# Altium footprint library PcbLib1.PcbLib: 1 footprints
Each footprint in its own frame and in the unit in brackets; x right, y up, seen from the top. Pads: shape width x height; smd on the part's side, far side on the other; paste and mask are expansions set on the pad; w line width, h text height; cw(c..) or ccw(c..) is an arc to the next point about the centre after c.
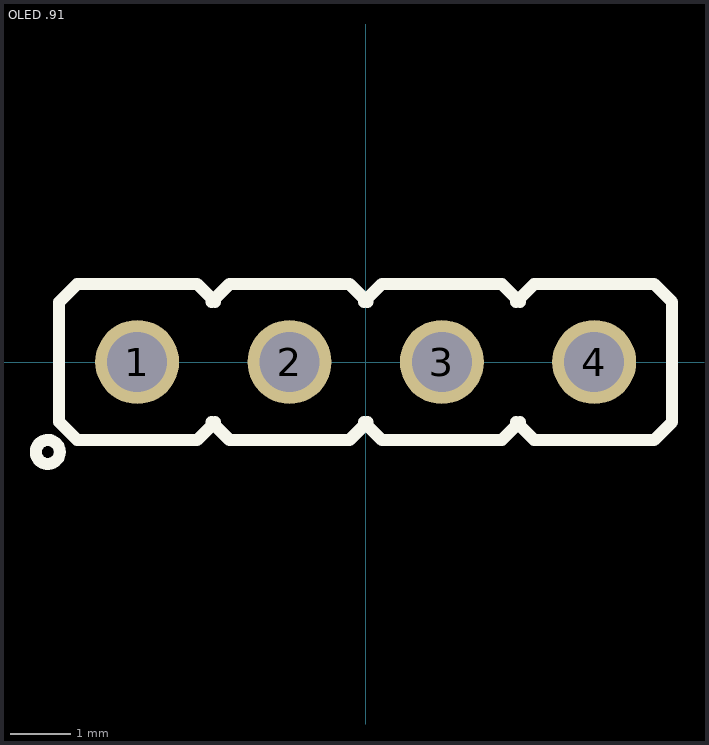
[diagram p0: the footprint, top view; thin cyan lines are the x and y axes]

## OLED .91 [mm] "Connector; Header; 4 Position"
pads (4):
  round 1.4 / inner round 1.4 / far side oval 1.4x2.2 hole 1 mask+0.1: 1(-3.81,0) 2(-1.27,0) 3(1.27,0) 4(3.81,0)
Top Overlay:
  circle w0.2: c-5.3,-1.5 r0.2
  lines w0.2: -2.57,-1 -2.27,-1.3 -0.27,-1.3 0.03,-1 ; -2.57,1 -2.27,1.3 -0.27,1.3 0.03,1 ; -2.51,-1 -2.81,-1.3 -4.81,-1.3 -5.11,-1 -5.11,1 -4.81,1.3 -2.81,1.3 -2.51,1 ; -0.03,-1 0.27,-1.3 2.27,-1.3 2.57,-1 ; -0.03,1 0.27,1.3 2.27,1.3 2.57,1 ; 2.51,-1 2.81,-1.3 4.81,-1.3 5.11,-1 5.11,1 4.81,1.3 2.81,1.3 2.51,1
3D body "OLED 128 x 32 Display Assembly.step": height 13.4, standoff 2.14, extent -6,-36.73 6,1.27